# Altium footprint library PCB.PcbLib: 15 footprints
Each footprint in its own frame and in the unit in brackets; x right, y up, seen from the top. Pads: shape width x height; smd on the part's side, far side on the other; paste and mask are expansions set on the pad; w line width, h text height; cw(c..) or ccw(c..) is an arc to the next point about the centre after c.
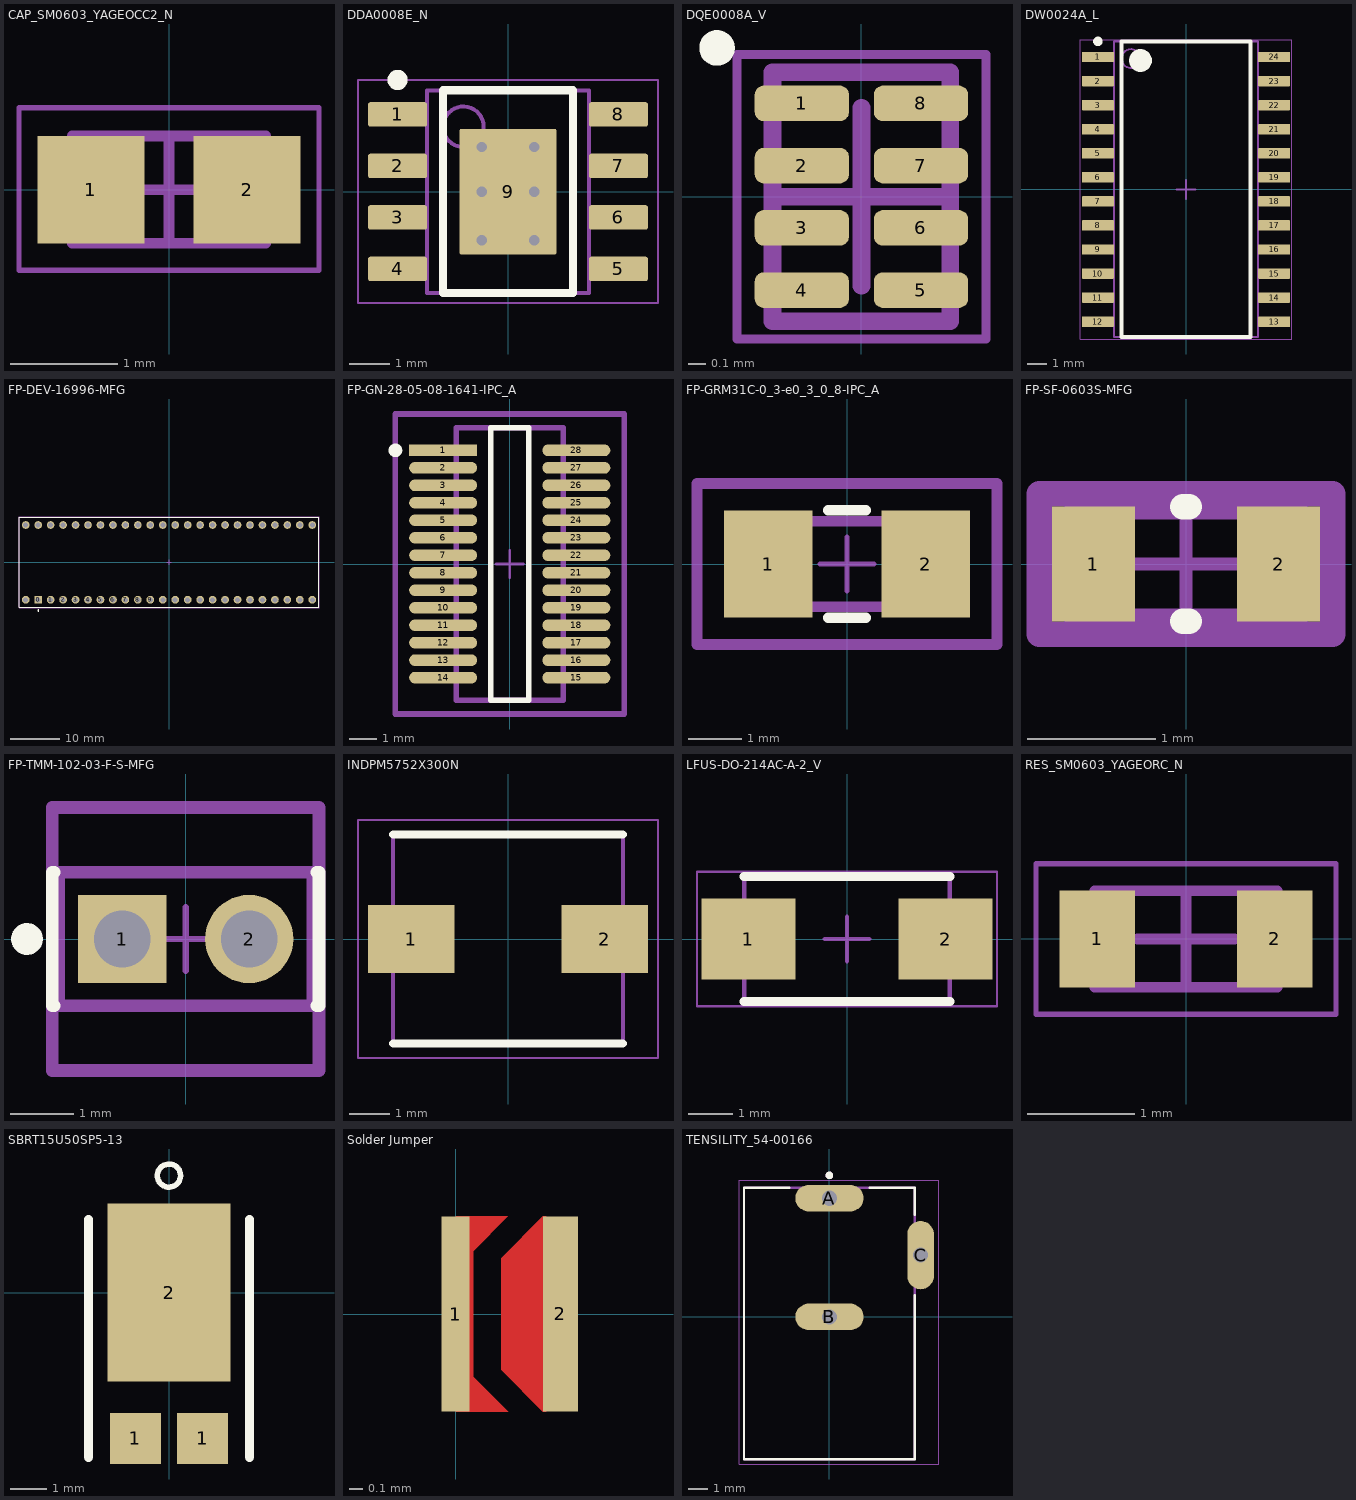
[diagram p0: the footprints below, top view; thin cyan lines are the x and y axes]

## CAP_SM0603_YAGEOCC2_N [mm]
pads (2):
  rect 1x1 smd: 1(-0.727,0) 2(0.727,0)
Top 3D Body:
  lines w0.1: -0.9,-0.5 0.9,-0.5 0.9,0.5 -0.9,0.5 -0.9,-0.5
Top Courtyard:
  lines w0.05: -1.397,-0.75 1.397,-0.75 1.397,0.762 -1.397,0.762 -1.397,-0.75
  lines w0.1: -0.5,0 0.5,0 ; 0,-0.5 0,0.5
3D body: height 0.9, standoff 0, extent 0.5,-0.5 0.9,0.5
3D body: height 0.9, standoff 0, extent -0.9,-0.5 -0.5,0.5
3D body: height 0.9, standoff 0, extent -0.5,-0.5 0.5,0.5

## DDA0008E_N [mm]
pads (9):
  rrect17% 1.45x0.6 smd: 1(-2.725,1.905) 2(-2.725,0.635) 3(-2.725,-0.635) 4(-2.725,-1.905) 5(2.725,-1.905) 6(2.725,-0.635) 7(2.725,0.635) 8(2.725,1.905)
  rrect4% 2.4x3.1 smd: 9(0,0)
via 0.65,0 diameter 0.508 hole 0.254
via 0.65,-1.2 diameter 0.508 hole 0.254
via -0.65,0 diameter 0.508 hole 0.254
via -0.65,1.1 diameter 0.508 hole 0.254
via 0.65,1.1 diameter 0.508 hole 0.254
via -0.65,-1.2 diameter 0.508 hole 0.254
Top Overlay:
  circle w0.25: c-2.725,2.755 r0.125
  lines w0.2: -1.6,-2.5 1.6,-2.5 1.6,2.5 -1.6,2.5 -1.6,-2.5
Mechanical 1:
  text ".Designator" at -1.524,-0.254 h0.8
Top 3D Body:
  circle w0.1: c-1.1,1.6 r0.5
  lines w0.1: -2,-2.5 2,-2.5 2,2.5 -2,2.5 -2,-2.5
Top Courtyard:
  lines w0.05: -3.7,-2.75 3.7,-2.75 3.7,2.75 -3.7,2.75 -3.7,-2.75
  lines w0.1: -0.5,0 0.5,0 ; 0,-0.5 0,0.5
3D body "MRA08A.stp": height 1.5, standoff -0.05, extent -2.978,-2.451 2.978,2.451

## DQE0008A_V [mm]
pads (8):
  rrect50% 0.53x0.2 smd paste-0.5: 1(-0.335,0.525) 2(-0.335,0.175) 3(-0.335,-0.175) 4(-0.335,-0.525) 5(0.335,-0.525) 6(0.335,-0.175) 7(0.335,0.175) 8(0.335,0.525)
Top Overlay:
  circle w0.1: c-0.812,0.837 r0.05
Top Paste:
  region: 0.6,0.607 0.07,0.607 0.07,0.443 0.6,0.443
  region: 0.6,0.258 0.07,0.258 0.07,0.093 0.6,0.093
  region: 0.6,-0.093 0.07,-0.093 0.07,-0.258 0.6,-0.258
  region: 0.6,-0.443 0.07,-0.443 0.07,-0.607 0.6,-0.607
  rectangle: -0.6,-0.607 -0.07,-0.443
  rectangle: -0.6,-0.258 -0.07,-0.093
  rectangle: -0.6,0.093 -0.07,0.258
  rectangle: -0.6,0.443 -0.07,0.607
Mechanical 1:
  text ".Designator" at -0.335,-0.175 h0.2
Top 3D Body:
  lines w0.1: -0.5,-0.7 -0.5,0.7 0.5,0.7 0.5,-0.7 -0.5,-0.7
Top Courtyard:
  lines w0.05: -0.7,-0.8 -0.7,0.8 0.7,0.8 0.7,-0.8 -0.7,-0.8
  lines w0.1: -0.5,0 0.5,0 ; 0,-0.5 0,0.5
3D body: height 0.4, standoff 0, extent -0.5,-0.7 0.5,0.7

## DW0024A_L [mm]
pads (24):
  rrect18% 1.7x0.55 smd: 1(-4.65,6.985) 2(-4.65,5.715) 3(-4.65,4.445) 4(-4.65,3.175) 5(-4.65,1.905) 6(-4.65,0.635) 7(-4.65,-0.635) 8(-4.65,-1.905) 9(-4.65,-3.175) 10(-4.65,-4.445) 11(-4.65,-5.715) 12(-4.65,-6.985) 13(4.65,-6.985) 14(4.65,-5.715) 15(4.65,-4.445) 16(4.65,-3.175) 17(4.65,-1.905) 18(4.65,-0.635) 19(4.65,0.635) 20(4.65,1.905) 21(4.65,3.175) 22(4.65,4.445) 23(4.65,5.715) 24(4.65,6.985)
Top Overlay:
  circle w0.25: c-4.65,7.81 r0.125
  circle w0.6: c-2.4,6.8 r0.3
  lines w0.2: -3.4,-7.8 -3.4,7.8 3.4,7.8 3.4,-7.8 -3.4,-7.8
Mechanical 1:
  text ".Designator" at -2.794,-0.508 h1.2
Top 3D Body:
  circle w0.1: c-2.9,6.9 r0.5
  lines w0.1: -3.8,-7.8 -3.8,7.8 3.8,7.8 3.8,-7.8 -3.8,-7.8
Top Courtyard:
  lines w0.05: -5.575,-7.9 -5.575,7.9 5.575,7.9 5.575,-7.9 -5.575,-7.9
  lines w0.1: -0.5,0 0.5,0 ; 0,-0.5 0,0.5
3D body: height 2.65, standoff 0.1, extent -3.8,-7.8 3.8,7.8

## FP-DEV-16996-MFG [mm]
pads (48):
  rect 1.57x1.57 hole 1.02 paste-2539.97 mask+0: 0(-26.67,-7.62)
  round 1.57 hole 1.02 paste-2539.97 mask+0: 1(-24.13,-7.62) 2(-21.59,-7.62) 3(-19.05,-7.62) 4(-16.51,-7.62) 5(-13.97,-7.62) 6(-11.43,-7.62) 7(-8.89,-7.62) 8(-6.35,-7.62) 9(-3.81,-7.62) 10(-1.27,-7.62) 11(1.27,-7.62) 12(3.81,-7.62) 13(3.81,7.62) 14(1.27,7.62) 15(-1.27,7.62) 16(-3.81,7.62) 17(-6.35,7.62) 18(-8.89,7.62) 19(-11.43,7.62) 20(-13.97,7.62) 21(-16.51,7.62) 22(-19.05,7.62) 23(-21.59,7.62) 24(8.89,-7.62) 25(11.43,-7.62) 26(13.97,-7.62) 27(16.51,-7.62) 28(19.05,-7.62) 29(21.59,-7.62) 30(24.13,-7.62) 31(26.67,-7.62) 32(29.21,-7.62) 33(29.21,7.62) 34(26.67,7.62) 35(24.13,7.62) 36(21.59,7.62) 37(19.05,7.62) 38(16.51,7.62) 39(13.97,7.62) 40(11.43,7.62) 41(8.89,7.62) 42(-29.21,7.62) 43(-26.67,7.62) 44(-24.13,7.62) 45(6.35,7.62) 46(-29.21,-7.62) 47(6.35,-7.62)
Top Overlay:
  circle w0.25: c-26.63,-9.82 r0.125
  lines w0.2: -30.48,-9.19 30.48,-9.19 30.48,9.19 -30.48,9.19 -30.48,-9.19
Top Assembly:
  lines w0.2: -30.58,-9.29 30.58,-9.29 30.58,9.29 -30.58,9.29 -30.58,-9.29
  text ".Designator" at 0,0.187 h1
Top 3D Body:
  lines w0.2: -30.48,-9.19 30.48,-9.19 30.48,9.19 -30.48,9.19 -30.48,-9.19
Top Courtyard:
  lines w0.2: -30.58,-9.29 30.58,-9.29 30.58,9.29 -30.58,9.29 -30.58,-9.29
Top Component Center:
  lines w0.1: -0.5,0 0.5,0 ; 0,-0.5 0,0.5
3D body "UNK_SparkFun_DEV-16996_eec.STEP": height 0.25, standoff 0, extent -30.58,-9.29 30.58,9.29

## FP-GN-28-05-08-1641-IPC_A [mil]
pads (28):
  rect 97.04x16.82 smd paste+0 mask+0: 1(-95.27,162.5)
  rrect100% 97.04x16.82 smd paste+0 mask+0: 2(-95.27,137.5) 3(-95.27,112.5) 4(-95.27,87.5) 5(-95.27,62.5) 6(-95.27,37.5) 7(-95.27,12.5) 8(-95.27,-12.5) 9(-95.27,-37.5) 10(-95.27,-62.5) 11(-95.27,-87.5) 12(-95.27,-112.5) 13(-95.27,-137.5) 14(-95.27,-162.5) 15(95.27,-162.5) 16(95.27,-137.5) 17(95.27,-112.5) 18(95.27,-87.5) 19(95.27,-62.5) 20(95.27,-37.5) 21(95.27,-12.5) 22(95.27,12.5) 23(95.27,37.5) 24(95.27,62.5) 25(95.27,87.5) 26(95.27,112.5) 27(95.27,137.5) 28(95.27,162.5)
Top Overlay:
  circle w9.84: c-163.47,162.5 r4.92
  lines w7.87: -27.07,-194.74 27.07,-194.74 27.07,194.74 -27.07,194.74 -27.07,-194.74
Top Assembly:
  lines w7.87: -163.47,-214.43 163.47,-214.43 163.47,214.43 -163.47,214.43 -163.47,-214.43
  text ".Designator" at 0,-0.03 h39.37
Top 3D Body:
  lines w7.87: -76.75,-194.74 76.75,-194.74 76.75,194.74 -76.75,194.74 -76.75,-194.74
Top Courtyard:
  lines w7.87: -163.47,-214.43 163.47,-214.43 163.47,214.43 -163.47,214.43 -163.47,-214.43
Top Component Center:
  lines w3.94: -19.68,0 19.68,0 ; 0,-19.68 0,19.68
3D body "IC_Analog_Devices_LT1571EGN-1#PBF_eec.STEP": height 10, standoff 0, extent -163.47,-214.43 163.47,214.43

## FP-GRM31C-0_3-e0_3_0_8-IPC_A [mm]
pads (2):
  rect 1.653x2.004 smd paste+0 mask+0: 1(-1.475,0) 2(1.475,0)
Top Overlay:
  lines w0.2: -0.349,-1.002 0.349,-1.002 ; -0.349,1.002 0.349,1.002
Top Assembly:
  lines w0.2: -2.802,-1.502 -2.802,1.502 2.802,1.502 2.802,-1.502 -2.802,-1.502
  text ".Designator" at 0,0.187 h1
Top 3D Body:
  lines w0.2: -1.6,-0.8 -1.6,0.8 1.6,0.8 1.6,-0.8 -1.6,-0.8
Top Courtyard:
  lines w0.2: -2.802,-1.502 -2.802,1.502 2.802,1.502 2.802,-1.502 -2.802,-1.502
Top Component Center:
  lines w0.1: -0.5,0 0.5,0 ; 0,-0.5 0,0.5
3D body "Cap_Murata_GRM31CC71C226ME11K_eec.STEP": height 0.25, standoff 0, extent -2.802,-1.502 2.802,1.502

## FP-SF-0603S-MFG [mm]
pads (2):
  rect 0.65x0.9 smd paste+0 mask+0: 1(-0.725,0) 2(0.725,0)
Top Overlay:
  lines w0.2: -0.025,-0.45 0.025,-0.45 ; -0.025,0.45 0.025,0.45
Top Assembly:
  lines w0.2: -1.15,-0.55 1.15,-0.55 1.15,0.55 -1.15,0.55 -1.15,-0.55
  text ".Designator" at 0,0.187 h1
Top 3D Body:
  lines w0.2: -0.85,-0.45 0.85,-0.45 0.85,0.45 -0.85,0.45 -0.85,-0.45
Top Courtyard:
  lines w0.2: -1.15,-0.55 1.15,-0.55 1.15,0.55 -1.15,0.55 -1.15,-0.55
Top Component Center:
  lines w0.1: -0.5,0 0.5,0 ; 0,-0.5 0,0.5
3D body "Fuse_Bourns_Inc_SF-0603S050-2_eec.STEP": height 0.25, standoff 0, extent -1.15,-0.55 1.15,0.55

## FP-TMM-102-03-F-S-MFG [mm]
pads (2):
  rect 1.39x1.39 hole 0.89 paste-2539.97 mask+0: 1(-1,0)
  round 1.39 hole 0.89 paste-2539.97 mask+0: 2(1,0)
Top Overlay:
  circle w0.25: c-2.5,0 r0.125
  lines w0.2: -2.07,-1.05 -2.1,-1.05 -2.1,1.05 -2.07,1.05 ; 2.07,-1.05 2.1,-1.05 2.1,1.05 2.07,1.05
Top Paste:
  region: -1.85,-0.85 -0.15,-0.85 -0.15,0.85 -0.615,0.85 -0.64,0.852 -0.687,0.872 -0.723,0.908 -0.743,0.955 -0.745,0.98 -0.745,1.97 -1.255,1.97 -1.255,0.98 -1.257,0.955 -1.277,0.908 -1.313,0.872 -1.36,0.852 -1.385,0.85 -1.85,0.85
  region: 1.85,0.85 0.15,0.85 0.15,-0.85 0.615,-0.85 0.64,-0.852 0.687,-0.872 0.723,-0.908 0.743,-0.955 0.745,-0.98 0.745,-1.97 1.255,-1.97 1.255,-0.98 1.257,-0.955 1.277,-0.908 1.313,-0.872 1.36,-0.852 1.385,-0.85 1.85,-0.85
Top Assembly:
  lines w0.2: -2.1,-2.07 2.1,-2.07 2.1,2.07 -2.1,2.07 -2.1,-2.07
  text ".Designator" at 0,0.187 h1
Top 3D Body:
  lines w0.2: -2,-1.05 2,-1.05 2,1.05 -2,1.05 -2,-1.05
Top Courtyard:
  lines w0.2: -2.1,-2.07 2.1,-2.07 2.1,2.07 -2.1,2.07 -2.1,-2.07
Top Component Center:
  lines w0.1: -0.5,0 0.5,0 ; 0,-0.5 0,0.5
3D body "Conn_Samtec_TMM-102-03-F-S_eec.STEP": height 0.25, standoff 0, extent -2.1,-2.07 2.1,2.07

## INDPM5752X300N [mm]
pads (2):
  rect 2.15x1.7 smd: 1(-2.4,0) 2(2.4,0)
Top Overlay:
  lines w0.2: -2.85,-2.6 2.85,-2.6 ; -2.85,2.6 2.85,2.6
Top 3D Body:
  lines w0.1: -2.85,-2.6 2.85,-2.6 2.85,2.6 -2.85,2.6 -2.85,-2.6
Top Courtyard:
  lines w0.05: -3.725,-2.95 3.725,-2.95 3.725,2.95 -3.725,2.95 -3.725,-2.95
3D body "SRP5030TA-100M.stp": height 2.81, standoff 0, extent -2.85,-2.6 2.85,2.6

## LFUS-DO-214AC-A-2_V [mm]
pads (2):
  rect 2.1x1.8 smd: 1(-2.2,0) 2(2.2,0)
Top Overlay:
  lines w0.2: -2.3,-1.4 2.3,-1.4 ; -2.3,1.4 2.3,1.4
Top 3D Body:
  lines w0.1: -2.3,-1.395 -2.3,1.395 2.3,1.395 2.3,-1.395 -2.3,-1.395
Top Courtyard:
  lines w0.05: -3.35,-1.5 -3.35,1.5 3.35,1.5 3.35,-1.5 -3.35,-1.5
  lines w0.1: -0.5,0 0.5,0 ; 0,-0.5 0,0.5
3D body "INDM4326X23L.step": height 2.29, standoff 0, extent -2.52,-1.395 2.52,1.395

## RES_SM0603_YAGEORC_N [mm]
pads (2):
  rect 0.7x0.9 smd: 1(-0.827,0) 2(0.827,0)
Top 3D Body:
  lines w0.1: -0.85,-0.45 -0.85,0.45 0.85,0.45 0.85,-0.45 -0.85,-0.45
Top Courtyard:
  lines w0.05: -1.397,-0.7 -1.397,0.7 1.397,0.7 1.397,-0.7 -1.397,-0.7
  lines w0.1: -0.45,0 0.45,0 ; 0,-0.45 0,0.45
3D body: height 0.55, standoff 0, extent -0.6,-0.45 0.6,0.45
3D body: height 0.55, standoff 0, extent -0.85,-0.45 -0.6,0.45
3D body: height 0.55, standoff 0, extent 0.6,-0.45 0.85,0.45

## SBRT15U50SP5-13 [mm]
pads (3):
  rect 1.39x1.4 smd: 1(-0.92,-3.982) 1(0.92,-3.982)
  rect 3.36x4.86 smd: 2(0,0)
Top Overlay:
  circle w0.15: c0,3.2 r0.316
  lines w0.254: -2.2,-4.5 -2.2,2 ; 2.2,-4.5 2.2,2
3D body: height 0.25, standoff 0, extent 0.2,-4.6 1.6,-3.3
3D body: height 0.25, standoff 0, extent -1.6,-4.6 -0.2,-3.3
3D body: height 0.25, standoff 0, extent -1.6,-2.3 1.6,2.4
3D body: height 1.05, standoff 0.1, extent -2,-4.2 2,1.7

## Solder Jumper [mm]
pads (2):
  rect 0.2x1.4 smd paste+0: 1(0,0)
  rect 0.25x1.4 smd paste+0: 2(0.75,0)
Top Layer:
  region: 0.375,-0.7 0,-0.7 0,0.7 0.375,0.7 0.125,0.45 0.125,-0.45
  region: 0.65,0.7 0.625,0.7 0.325,0.4 0.325,-0.4 0.625,-0.7 0.65,-0.7
Top Solder:
  rectangle: -0.2,-0.8 0.975,0.8

## TENSILITY_54-00166 [mm]
pads (3):
  oval 3.6x1.4 hole 0.8 square: A(0,6.25) B(0,0)
  oval 1.4x3.6 hole 0.8 square: C(4.8,3.25)
Top Overlay:
  circle w0.2: c0,7.45 r0.1
  lines w0.127: -2.12,6.8 -4.5,6.8 -4.5,-7.5 4.5,-7.5 4.5,1.13 ; 2.12,6.8 4.5,6.8 4.5,5.37
Top 3D Body:
  circle w0.2: c0,7.45 r0.1
  lines w0.127: -4.5,-7.5 -4.5,6.8 4.5,6.8 4.5,-7.5 -4.5,-7.5
Top Courtyard:
  lines w0.05: -4.75,-7.75 5.75,-7.75 5.75,7.2 -4.75,7.2 -4.75,-7.75
3D body "step_temp.STEP": height 11, standoff -3.6, extent -4.5,-7.5 5,6.8